# EAGLE library part AVR_ISP (library GClue)
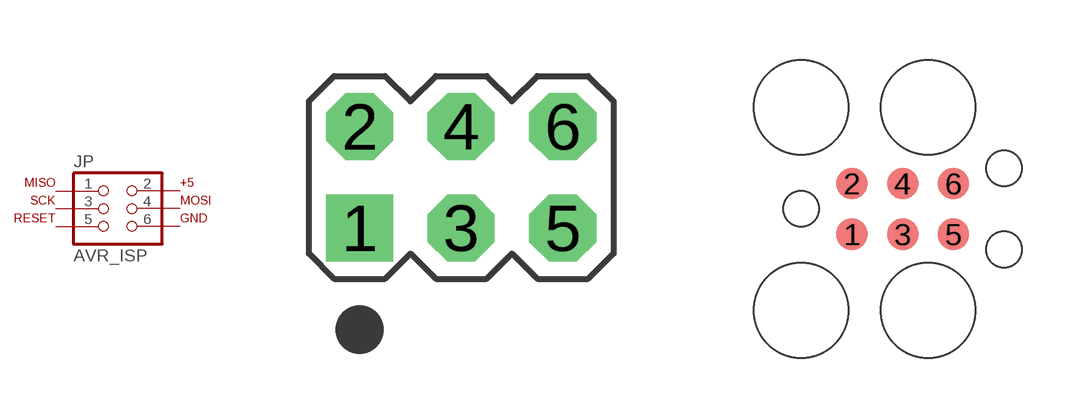
[diagram p24: symbol with the pads of 2X3; footprints 2X3, TC2030-MCP]

Designator prefix JP

## AVR_ISP-PTH  [2X3]
1  1  pas
2  2  pas
3  3  pas
4  4  pas
5  5  pas
6  6  pas

## AVR_ISP-TC  [TC2030-MCP]
Pads as for 2X3

## Footprint 2X3 (pad centres in mm)
drill 1 pad 1.676 square: 1 -2.54,-1.27
drill 1 pad 1.676 octagon: 2 -2.54,1.27; 3 0,-1.27; 4 0,1.27; 5 2.54,-1.27; 6 2.54,1.27

## Footprint TC2030-MCP (pad centres in mm)
smd 0.787 x 0.787: 1 -1.27,-0.635; 2 -1.27,0.635; 3 0,-0.635; 4 0,0.635; 5 1.27,-0.635; 6 1.27,0.635
hole 0.889 at -2.54,0
hole 0.889 at 2.54,-1.016
hole 0.889 at 2.54,1.016
hole 2.375 at -2.54,2.54
hole 2.375 at -2.54,-2.54
hole 2.375 at 0.635,-2.54
hole 2.375 at 0.635,2.54